# EAGLE library part LCD (library PIC32)
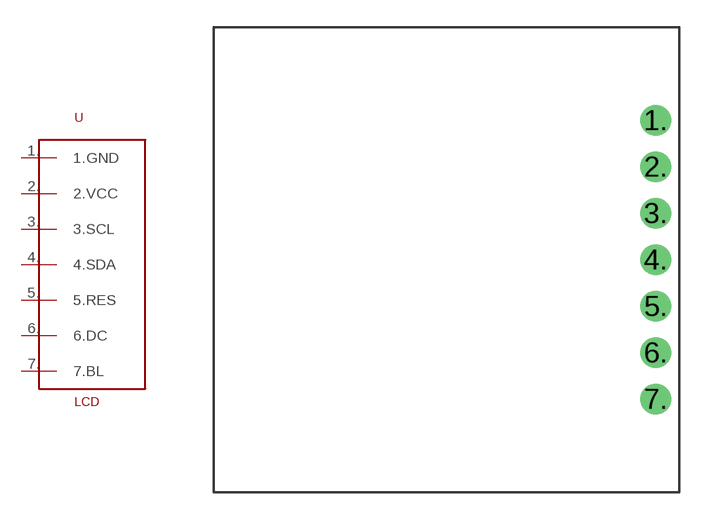
[diagram p10: symbol with the pads of LCD; footprint LCD]

Designator prefix -

## LCD  [LCD]
1.  1.GND
2.  2.VCC
3.  3.SCL
4.  4.SDA
5.  5.RES
6.  6.DC
7.  7.BL

## Footprint LCD (pad centres in mm)
drill 1.02 pad 1.676: 1. -6.35,7.62; 2. -6.35,5.08; 3. -6.35,2.54; 4. -6.35,0; 5. -6.35,-2.54; 6. -6.35,-5.08; 7. -6.35,-7.62